# Altium schematic symbol library U_LT3797EUKG#PBF.SchLib: 1 symbol
Pins are listed as number, name and electrical type; pins without a type are passive.

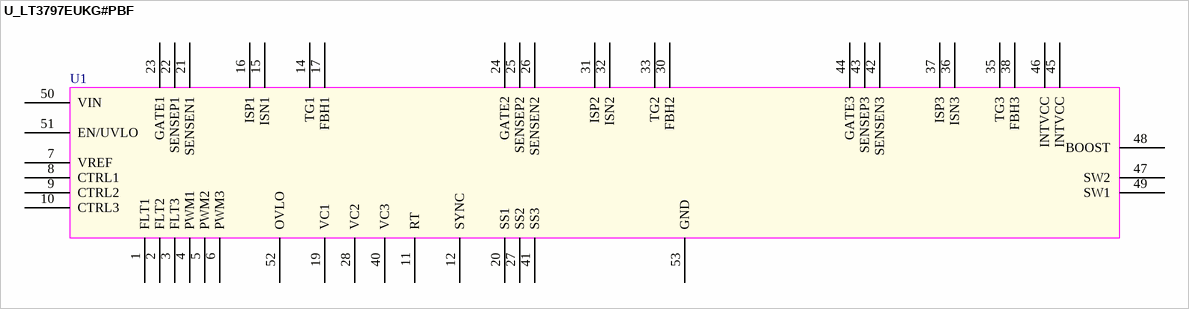
[diagram p0: symbol U_LT3797EUKG#PBF]

## U_LT3797EUKG#PBF
designator U1
footprint 52-WFQFN EXPOSED PAD
pins: 1 FLT1, 2 FLT2, 3 FLT3, 4 PWM1, 5 PWM2, 6 PWM3, 7 VREF, 8 CTRL1, 9 CTRL2, 10 CTRL3, 11 RT, 12 SYNC, 14 TG1, 15 ISN1, 16 ISP1, 17 FBH1, 19 VC1, 20 SS1, 21 SENSEN1, 22 SENSEP1, 23 GATE1, 24 GATE2, 25 SENSEP2, 26 SENSEN2, 27 SS2, 28 VC2, 30 FBH2, 31 ISP2, 32 ISN2, 33 TG2, 35 TG3, 36 ISN3, 37 ISP3, 38 FBH3, 40 VC3, 41 SS3, 42 SENSEN3, 43 SENSEP3, 44 GATE3, 45 INTVCC, 46 INTVCC, 47 SW2, 48 BOOST, 49 SW1, 50 VIN, 51 EN/UVLO, 52 OVLO, 53 GND